# Altium footprint library LR78XX.PcbLib: 2 footprints
Each footprint in its own frame and in the unit in brackets; x right, y up, seen from the top. Pads: shape width x height; smd on the part's side, far side on the other; paste and mask are expansions set on the pad; w line width, h text height; cw(c..) or ccw(c..) is an arc to the next point about the centre after c.
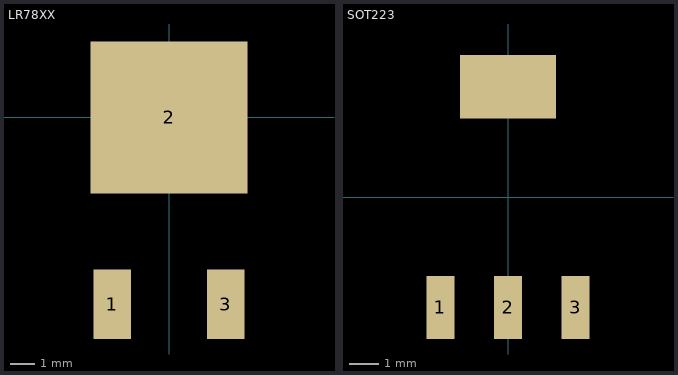
[diagram p0: the footprints below, top view; thin cyan lines are the x and y axes]

## LR78XX [mm] "SMD"
pads (3):
  rect 1.5x2.8 smd: 1(-2.286,-7.5) 3(2.286,-7.5)
  rect 6.3x6.1 smd: 2(0,0)
3D body: height 2.37, standoff -0.03, extent -3.367,-7.876 3.367,2.224

## SOT223 [mm]
pads (4):
  rect 0.95x2.15 smd: 1(-2.3,-3.75) 2(0,-3.75) 3(2.3,-3.75)
  rect 3.25x2.15 smd: ""(0,3.75)
3D body: height 1.64, standoff -0.01, extent -3.25,-3.5 3.25,3.5